# Altium footprint library SOP.PcbLib: 43 footprints (part 2 of 3)
Each footprint in its own frame and in the unit in brackets; x right, y up, seen from the top. Pads: shape width x height; smd on the part's side, far side on the other; paste and mask are expansions set on the pad; w line width, h text height; cw(c..) or ccw(c..) is an arc to the next point about the centre after c.
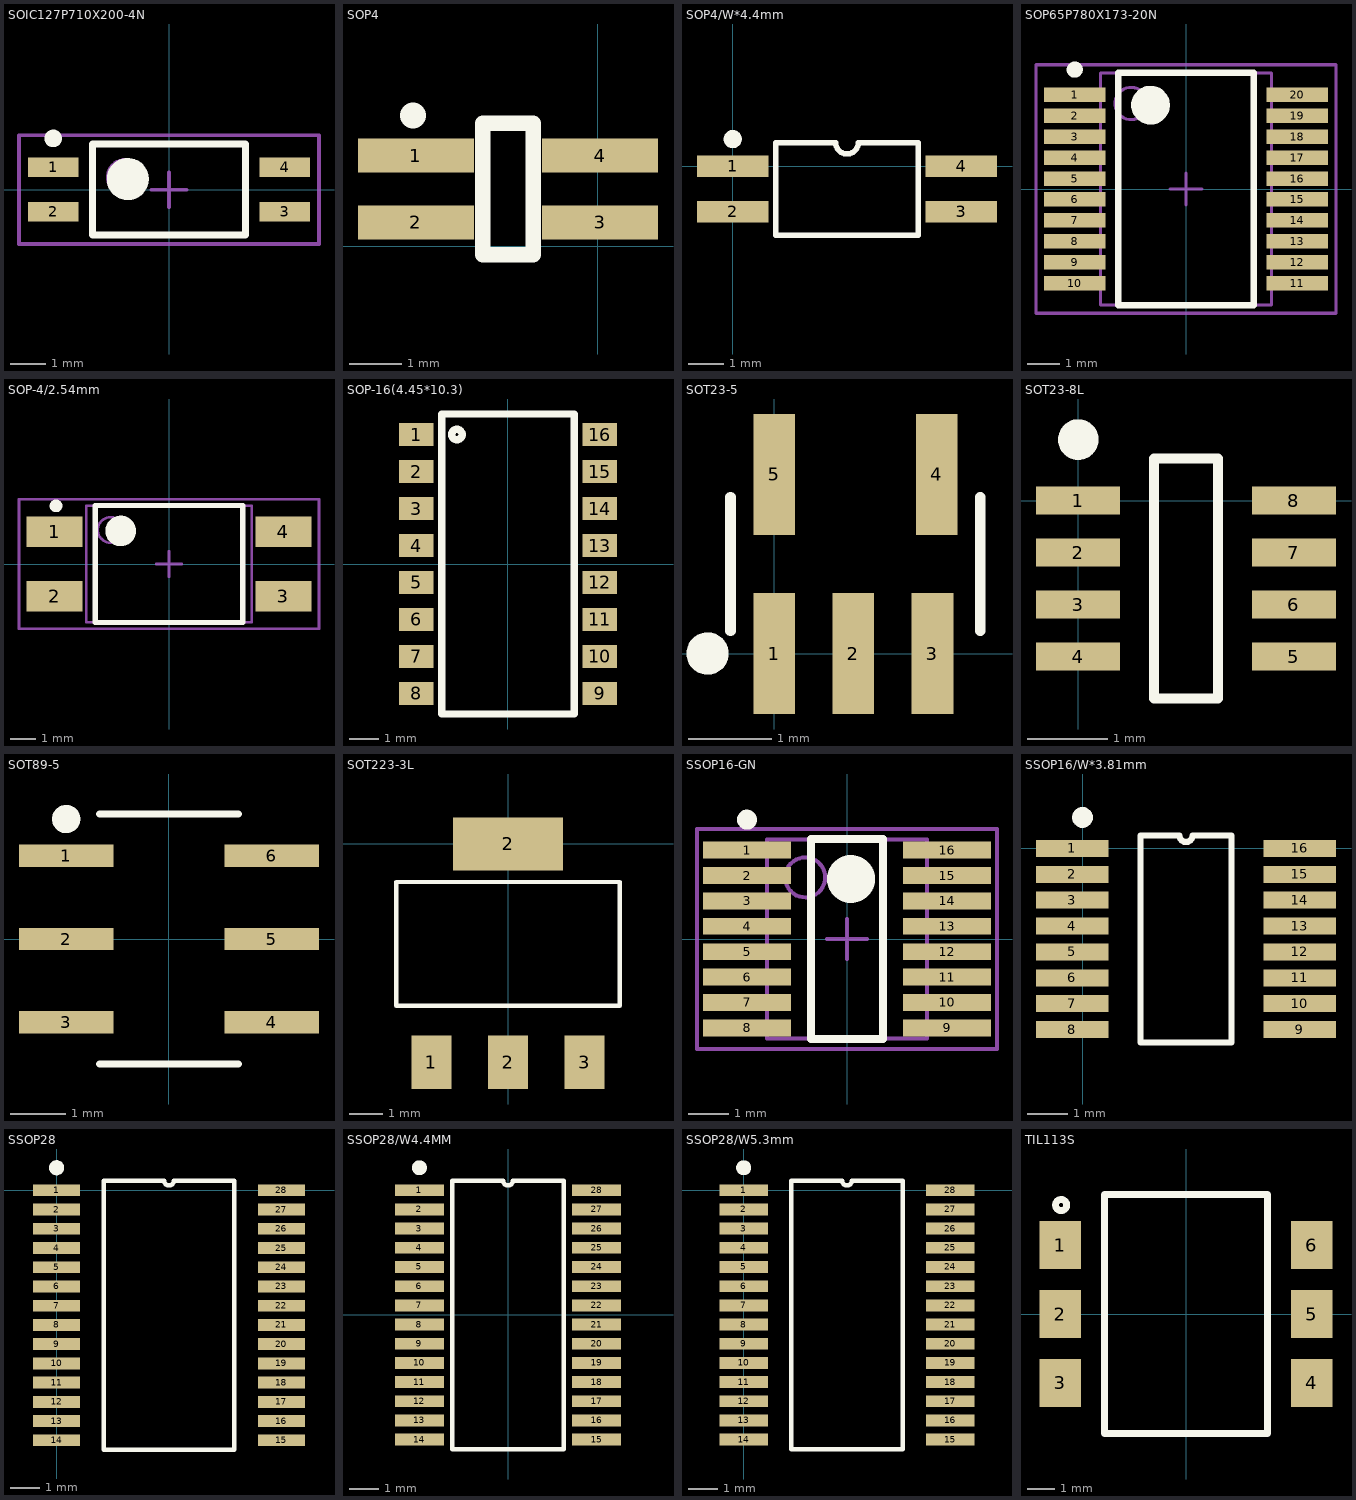
[diagram p1: the footprints below, top view; thin cyan lines are the x and y axes]

## SOIC127P710X200-4N [mm] "SOIC, 4-Leads, Body 2.6x4.4mm (max), Pitch 1.27mm, IPC Medium Density"
height 2
pads (4):
  rect 1.45x0.55 smd: 1(-3.3,0.635) 2(-3.3,-0.635) 3(3.3,-0.635) 4(3.3,0.635)
Top Overlay:
  circle w0.25: c-3.3,1.46 r0.125
  circle w0.6: c-1.175,0.3 r0.3
  lines w0.2: -2.175,-1.3 -2.175,1.3 2.175,1.3 2.175,-1.3 -2.175,-1.3
Mechanical 13:
  circle w0.1: c-1.25,0.35 r0.5
  lines w0.1: -2.2,-1.3 -2.2,1.3 2.2,1.3 2.2,-1.3 -2.2,-1.3
Mechanical 15:
  lines w0.1: -0.5,0 0.5,0 ; 0,-0.5 0,0.5 ; -4.275,-1.55 -4.275,1.55 4.275,1.55 4.275,-1.55 -4.275,-1.55
3D body: height 2, standoff 0.2, extent -2.2,-1.3 2.2,1.3

## SOP4 [mm]
pads (4):
  rect 2.2x0.65 smd: 1(-3.452,1.727) 2(-3.452,0.457) 3(0.048,0.457) 4(0.048,1.727)
Top Overlay:
  lines w0.3: -2.182,-0.158 -2.182,2.342 -1.222,2.342 -1.222,-0.158 -2.182,-0.158
  lines w0.5: -3.505,2.489 ccw(c-3.505,2.489) -3.505,2.489

## SOP4/W*4.4mm [mm]
pads (4):
  rect 2x0.6 smd: 1(0,0) 2(0,-1.27) 3(6.4,-1.27) 4(6.4,0)
Top Overlay:
  circle w0.254: c0,0.762 r0.127
  lines w0.152: 1.2,-1.935 5.2,-1.935 5.2,0.665 3.517,0.665 cw(c3.2,0.665) 2.882,0.665 1.2,0.665 1.2,-1.935

## SOP65P780X173-20N [mm] "SOP, 20-Leads, Body 7.2x5.3mm (max), Pitch 0.65mm, IPC Medium Density"
height 1.73
pads (20):
  rect 1.9x0.45 smd: 1(-3.45,2.925) 2(-3.45,2.275) 3(-3.45,1.625) 4(-3.45,0.975) 5(-3.45,0.325) 6(-3.45,-0.325) 7(-3.45,-0.975) 8(-3.45,-1.625) 9(-3.45,-2.275) 10(-3.45,-2.925) 11(3.45,-2.925) 12(3.45,-2.275) 13(3.45,-1.625) 14(3.45,-0.975) 15(3.45,-0.325) 16(3.45,0.325) 17(3.45,0.975) 18(3.45,1.625) 19(3.45,2.275) 20(3.45,2.925)
Top Overlay:
  circle w0.6: c-1.1,2.6 r0.3
  circle w0.25: c-3.45,3.7 r0.125
  lines w0.2: -2.1,-3.6 2.1,-3.6 2.1,3.6 -2.1,3.6 -2.1,-3.6
Mechanical 13:
  circle w0.1: c-1.7,2.65 r0.5
  lines w0.1: -2.65,-3.6 2.65,-3.6 2.65,3.6 -2.65,3.6 -2.65,-3.6
Mechanical 15:
  lines w0.1: -0.5,0 0.5,0 ; 0,-0.5 0,0.5 ; -4.65,-3.85 4.65,-3.85 4.65,3.85 -4.65,3.85 -4.65,-3.85
3D body: height 1.73, standoff 0.2, extent -2.65,-3.6 2.65,3.6

## SOP-4/2.54mm [mm] "PC817"
height 3.5
pads (4):
  rect 2.2x1.2 smd: 1(-4.5,1.27) 2(-4.5,-1.27) 3(4.5,-1.27) 4(4.5,1.27)
Top Overlay:
  circle w0.6: c-1.9,1.3 r0.3
  circle w0.25: c-4.443,2.286 r0.125
  lines w0.2: -2.9,-2.3 2.9,-2.3 2.9,2.3 -2.9,2.3 -2.9,-2.3
Mechanical 13:
  circle w0.1: c-2.3,1.34 r0.5
  lines w0.1: -3.25,-2.29 3.25,-2.29 3.25,2.29 -3.25,2.29 -3.25,-2.29
Mechanical 15:
  lines w0.1: -0.5,0 0.5,0 ; 0,-0.5 0,0.5 ; -5.9,-2.55 5.9,-2.55 5.9,2.55 -5.9,2.55 -5.9,-2.55
3D body: height 3.5, standoff 0.26, extent -3.25,-2.29 3.25,2.29

## SOP-16(4.45*10.3) [mm] "TLP291-4"
height 2.1
pads (16):
  rect 1.2x0.8 smd: 1(-3.15,4.445) 2(-3.15,3.175) 3(-3.15,1.905) 4(-3.15,0.635) 5(-3.15,-0.635) 6(-3.15,-1.905) 7(-3.15,-3.175) 8(-3.15,-4.445) 9(3.15,-4.445) 10(3.15,-3.175) 11(3.15,-1.905) 12(3.15,-0.635) 13(3.15,0.635) 14(3.15,1.905) 15(3.15,3.175) 16(3.15,4.445)
Top Overlay:
  circle w0.254: c-1.753,4.445 r0.18
  lines w0.254: -2.275,-5.15 -2.275,5.15 2.275,5.15 2.275,-5.15 -2.275,-5.15

## SOT23-5 [mm] "SOT23-5 FOR LT1930"
height 1
pads (5):
  rect 0.5x1.45 smd: 1(0,0) 2(0.95,0) 3(1.9,0) 4(1.95,2.15) 5(0,2.15)
Top Overlay:
  circle w0.254: c-0.8,0 r0.127
  lines w0.127: -0.525,0.275 -0.525,1.875 ; 2.475,0.275 2.475,1.875

## SOT23-8L [mm]
pads (8):
  rect 1.05x0.35 smd: 1(0,0) 2(0,-0.65) 3(0,-1.3) 4(0,-1.95) 5(2.7,-1.95) 6(2.7,-1.3) 7(2.7,-0.65) 8(2.7,0)
Top Overlay:
  circle w0.254: c0.004,0.762 r0.127
  lines w0.127: 0.95,-2.475 1.75,-2.475 1.75,0.525 0.95,0.525 0.95,-2.475

## SOT89-5 [mm] "For S1131"
height 1.5
pads (6):
  rect 1.7x0.4 smd: 1(-1.85,1.5) 2(-1.85,0) 3(-1.85,-1.5) 4(1.85,-1.5) 5(1.85,0) 6(1.85,1.5)
Top Overlay:
  circle w0.254: c-1.85,2.159 r0.127
  lines w0.127: -1.25,-2.25 1.25,-2.25 ; -1.25,2.25 1.25,2.25

## SOT223-3L [mm] "FOR AP1117"
pads (4):
  rect 1.2x1.6 smd: 1(-2.3,-6.553) 2(0,-6.553) 3(2.3,-6.553)
  rect 3.3x1.6 smd: 2(0,0)
Top Overlay:
  lines w0.127: -3.353,-4.851 3.353,-4.851 3.353,-1.143 -3.353,-1.143 -3.353,-4.851

## SSOP16-GN [mm] "LINEAR GN NARROW 150MIL"
height 1.5
pads (16):
  rect 2.2x0.42 smd: 1(-2.5,2.222) 2(-2.5,1.587) 3(-2.5,0.953) 4(-2.5,0.318) 5(-2.5,-0.318) 6(-2.5,-0.953) 7(-2.5,-1.587) 8(-2.5,-2.222) 9(2.5,-2.222) 10(2.5,-1.587) 11(2.5,-0.953) 12(2.5,-0.318) 13(2.5,0.318) 14(2.5,0.953) 15(2.5,1.587) 16(2.5,2.222)
Top Overlay:
  circle w0.25: c-2.5,2.983 r0.125
  circle w0.6: c0.1,1.5 r0.3
  lines w0.2: -0.9,-2.5 -0.9,2.5 0.9,2.5 0.9,-2.5 -0.9,-2.5
Mechanical 13:
  circle w0.1: c-1.045,1.54 r0.5
  lines w0.1: -1.995,-2.49 -1.995,2.49 1.995,2.49 1.995,-2.49 -1.995,-2.49
Mechanical 15:
  lines w0.1: -0.5,0 0.5,0 ; 0,-0.5 0,0.5 ; -3.75,-2.75 -3.75,2.75 3.75,2.75 3.75,-2.75 -3.75,-2.75
3D body: height 1.5, standoff 0.18, extent -1.995,-2.49 1.995,2.49

## SSOP16/W*3.81mm [mil]
pads (16):
  rect 70x16.5 smd: 1(-10,0) 2(-10,-25) 3(-10,-50) 4(-10,-75) 5(-10,-100) 6(-10,-125) 7(-10,-150) 8(-10,-175) 9(210,-175) 10(210,-150) 11(210,-125) 12(210,-100) 13(210,-75) 14(210,-50) 15(210,-25) 16(210,0)
Top Overlay:
  circle w10: c0,30 r5
  lines w6: 56,-187.5 144,-187.5 144,12.5 106.25,12.5 cw(c100,12.5) 93.75,12.5 56,12.5 56,-187.5

## SSOP28 [mm]
pads (28):
  rect 1.6x0.4 smd: 1(0,0) 2(0,-0.65) 3(0,-1.3) 4(0,-1.95) 5(0,-2.6) 6(0,-3.25) 7(0,-3.9) 8(0,-4.55) 9(0,-5.2) 10(0,-5.85) 11(0,-6.5) 12(0,-7.15) 13(0,-7.8) 14(0,-8.45) 15(7.6,-8.45) 16(7.6,-7.8) 17(7.6,-7.15) 18(7.6,-6.5) 19(7.6,-5.85) 20(7.6,-5.2) 21(7.6,-4.55) 22(7.6,-3.9) 23(7.6,-3.25) 24(7.6,-2.6) 25(7.6,-1.95) 26(7.6,-1.3) 27(7.6,-0.65) 28(7.6,0)
Top Overlay:
  circle w0.254: c0,0.762 r0.127
  lines w0.152: 1.587,-8.775 6.013,-8.775 6.013,0.325 3.962,0.325 cw(c3.8,0.325) 3.638,0.325 1.587,0.325 1.587,-8.775

## SSOP28/W4.4MM [mm] "FOR SC16IS752 SOT361-1 MO-153"
height 1.1
pads (28):
  rect 1.65x0.4 smd: 1(-3,4.225) 2(-3,3.575) 3(-3,2.925) 4(-3,2.275) 5(-3,1.625) 6(-3,0.975) 7(-3,0.325) 8(-3,-0.325) 9(-3,-0.975) 10(-3,-1.625) 11(-3,-2.275) 12(-3,-2.925) 13(-3,-3.575) 14(-3,-4.225) 15(3,-4.225) 16(3,-3.575) 17(3,-2.925) 18(3,-2.275) 19(3,-1.625) 20(3,-0.975) 21(3,-0.325) 22(3,0.325) 23(3,0.975) 24(3,1.625) 25(3,2.275) 26(3,2.925) 27(3,3.575) 28(3,4.225)
Top Overlay:
  circle w0.254: c-3,4.987 r0.127
  lines w0.152: -1.888,-4.55 1.888,-4.55 1.888,4.55 0.162,4.55 cw(c0,4.55) -0.162,4.55 -1.888,4.55 -1.888,-4.55

## SSOP28/W5.3mm [mm] "28 LEADS BODY WIDTH 5.3MM"
pads (28):
  rect 1.65x0.4 smd: 1(0,0) 2(0,-0.65) 3(0,-1.3) 4(0,-1.95) 5(0,-2.6) 6(0,-3.25) 7(0,-3.9) 8(0,-4.55) 9(0,-5.2) 10(0,-5.85) 11(0,-6.5) 12(0,-7.15) 13(0,-7.8) 14(0,-8.45) 15(7,-8.45) 16(7,-7.8) 17(7,-7.15) 18(7,-6.5) 19(7,-5.85) 20(7,-5.2) 21(7,-4.55) 22(7,-3.9) 23(7,-3.25) 24(7,-2.6) 25(7,-1.95) 26(7,-1.3) 27(7,-0.65) 28(7,0)
Top Overlay:
  circle w0.254: c0,0.762 r0.127
  lines w0.152: 1.612,-8.775 1.612,0.325 3.338,0.325 ccw(c3.5,0.325) 3.662,0.325 5.388,0.325 5.388,-8.775 1.612,-8.775

## TIL113S [mm] "2.54mm pitch"
height 5.08
pads (6):
  rect 1.52x1.78 smd: 1(-4.635,2.54) 2(-4.635,0) 3(-4.635,-2.54) 4(4.635,-2.54) 5(4.635,0) 6(4.635,2.54)
Top Overlay:
  circle w0.254: c-4.599,4.013 r0.205
  lines w0.254: -3,-4.4 -3,4.4 3,4.4 3,-4.4 -3,-4.4